# Altium integrated library National Semiconductor Temperature Sensor.IntLib: 361 symbols (part 3 of 9)
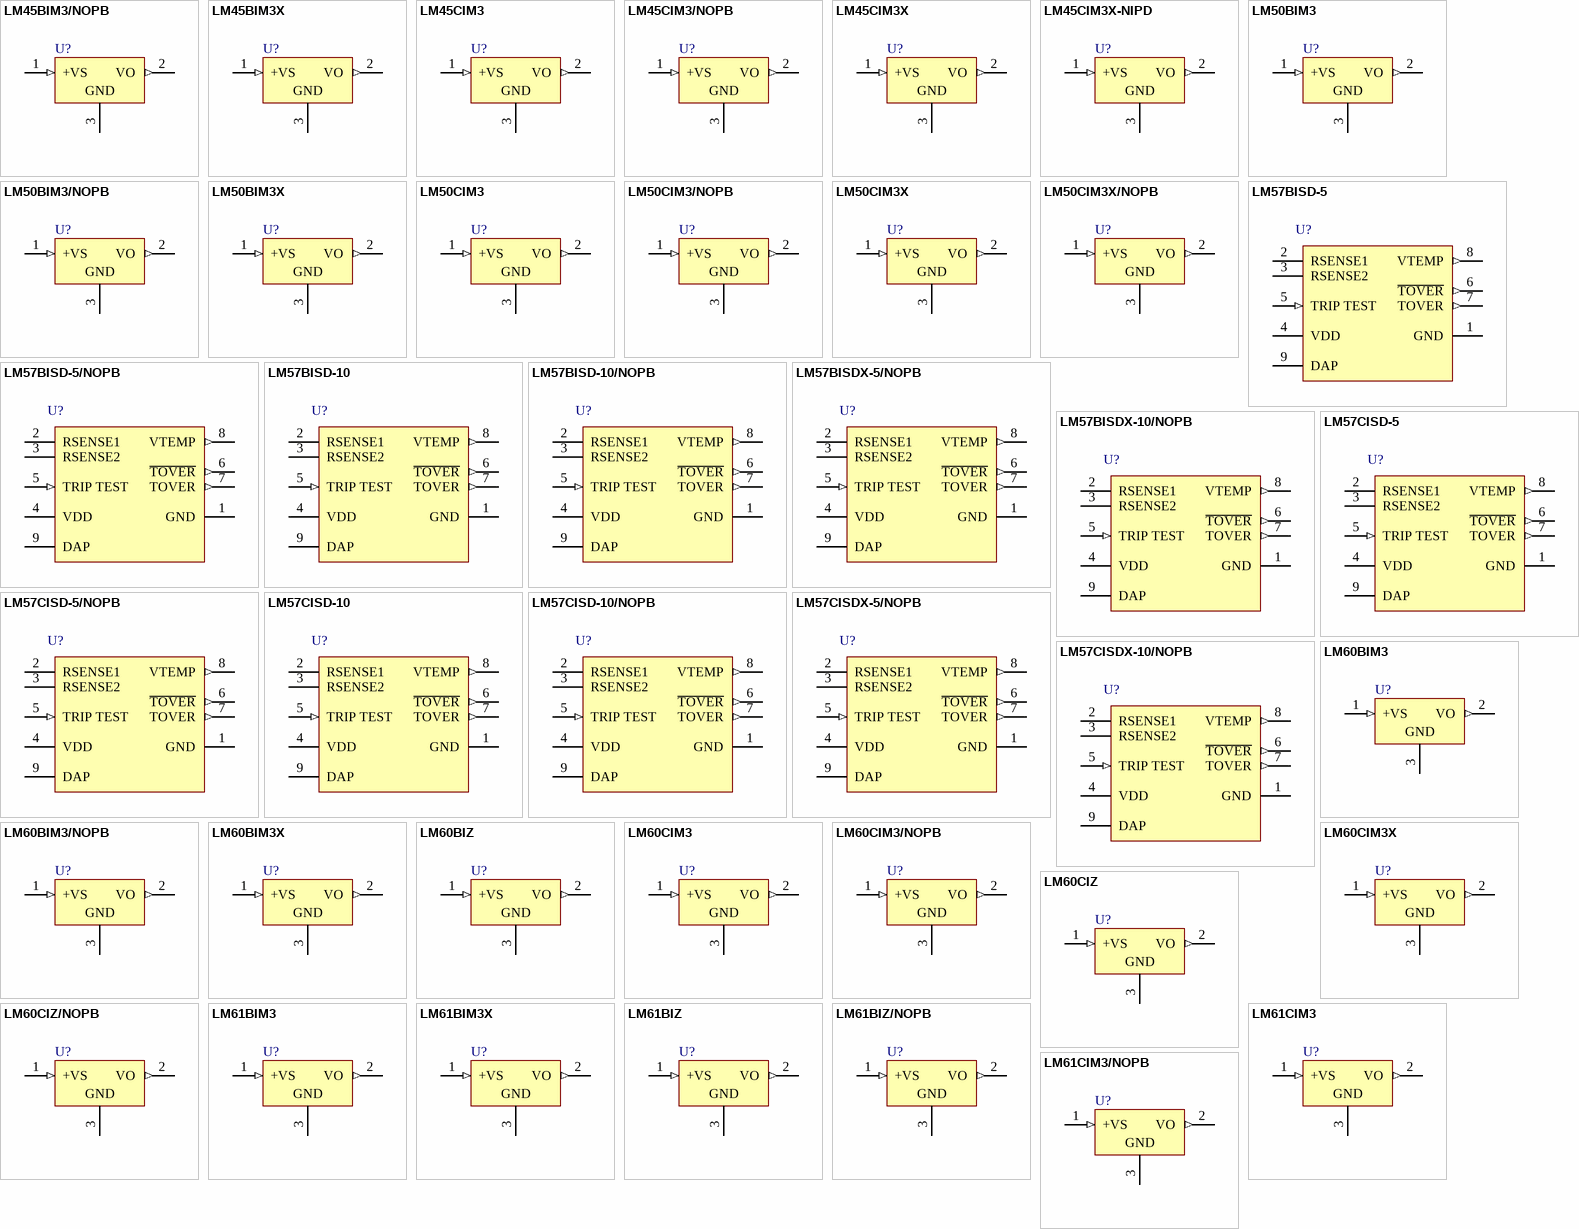
[diagram p11: symbols LM45BIM3/NOPB to LM61CIM3/NOPB]

## LM50BIM3/NOPB
designator U?
Single-Supply Centigrade Temperature Sensor, 3-pin SOT-23, Pb-Free; PartNumber: LM50BIM3/NOPB; Manufacturer: National Semiconductor; PackageTopMarking: T5B*XTT; PowerWise: N; CompType: Temp Sensor IC; High-Reliability: Y; DatasheetVersion: Feb-2006; PackageVersion: revB, Mar-2003; PackageReference: MF03A; PackageDescription: Molded SOT-23, .115 x .051 x .037in Body, 3 Lead, .075 in Pitch; RoHS: Y; PinCount: 3; ComponentLink1Description: Manufacturer URL; ComponentLink1URL: http://www.national.com/; ComponentLink2Description: LM50 Datasheet; ComponentLink2URL: http://www.national.com/ds/LM/LM50.pdf; ComponentLink3Description: LM50 Web Page; ComponentLink3URL: http://www.national.com/pf/LM/LM50.html; ComponentLink4Description: MF03A Package Page; ComponentLink4URL: http://www.national.com/packaging/folders/mf03a.html
footprint MF03A_N (SOT23, 3-Leads, Body 2.9x1.3mm, Pitch 0.95mm, Lead Span 2.4mm, IPC Medium Density)
footprint MF03A_L (SOT23, 3-Leads, Body 2.9x1.3mm, Pitch 0.95mm, Lead Span 2.4mm, IPC High Density)
footprint MF03A_M (SOT23, 3-Leads, Body 2.9x1.3mm, Pitch 0.95mm, Lead Span 2.4mm, IPC Low Density)
pins: 1 +VS (in), 2 VO (out), 3 GND (power)

## LM50BIM3X
designator U?
Single-Supply Centigrade Temperature Sensor, 3-pin SOT-23; PartNumber: LM50BIM3X; Manufacturer: National Semiconductor; PackageTopMarking: T5B*XTT; PowerWise: N; CompType: Temp Sensor IC; High-Reliability: Y; DatasheetVersion: Feb-2006; PackageVersion: revB, Mar-2003; PackageReference: MF03A; PackageDescription: Molded SOT-23, .115 x .051 x .037in Body, 3 Lead, .075 in Pitch; RoHS: N; PinCount: 3; ComponentLink1Description: Manufacturer URL; ComponentLink1URL: http://www.national.com/; ComponentLink2Description: LM50 Datasheet; ComponentLink2URL: http://www.national.com/ds/LM/LM50.pdf; ComponentLink3Description: LM50 Web Page; ComponentLink3URL: http://www.national.com/pf/LM/LM50.html; ComponentLink4Description: MF03A Package Page; ComponentLink4URL: http://www.national.com/packaging/folders/mf03a.html
footprint MF03A_N (SOT23, 3-Leads, Body 2.9x1.3mm, Pitch 0.95mm, Lead Span 2.4mm, IPC Medium Density)
footprint MF03A_L (SOT23, 3-Leads, Body 2.9x1.3mm, Pitch 0.95mm, Lead Span 2.4mm, IPC High Density)
footprint MF03A_M (SOT23, 3-Leads, Body 2.9x1.3mm, Pitch 0.95mm, Lead Span 2.4mm, IPC Low Density)
pins: 1 +VS (in), 2 VO (out), 3 GND (power)

## LM50CIM3
designator U?
Single-Supply Centigrade Temperature Sensor, 3-pin SOT-23; PartNumber: LM50CIM3; Manufacturer: National Semiconductor; PackageTopMarking: T5C*XTT; PowerWise: N; CompType: Temp Sensor IC; High-Reliability: Y; DatasheetVersion: Feb-2006; PackageVersion: revB, Mar-2003; PackageReference: MF03A; PackageDescription: Molded SOT-23, .115 x .051 x .037in Body, 3 Lead, .075 in Pitch; RoHS: N; PinCount: 3; ComponentLink1Description: Manufacturer URL; ComponentLink1URL: http://www.national.com/; ComponentLink2Description: LM50 Datasheet; ComponentLink2URL: http://www.national.com/ds/LM/LM50.pdf; ComponentLink3Description: LM50 Web Page; ComponentLink3URL: http://www.national.com/pf/LM/LM50.html; ComponentLink4Description: MF03A Package Page; ComponentLink4URL: http://www.national.com/packaging/folders/mf03a.html
footprint MF03A_N (SOT23, 3-Leads, Body 2.9x1.3mm, Pitch 0.95mm, Lead Span 2.4mm, IPC Medium Density)
footprint MF03A_L (SOT23, 3-Leads, Body 2.9x1.3mm, Pitch 0.95mm, Lead Span 2.4mm, IPC High Density)
footprint MF03A_M (SOT23, 3-Leads, Body 2.9x1.3mm, Pitch 0.95mm, Lead Span 2.4mm, IPC Low Density)
pins: 1 +VS (in), 2 VO (out), 3 GND (power)

## LM50CIM3/NOPB
designator U?
Single-Supply Centigrade Temperature Sensor, 3-pin SOT-23, Pb-Free; PartNumber: LM50CIM3/NOPB; Manufacturer: National Semiconductor; PackageTopMarking: T5C*XTT; PowerWise: N; CompType: Temp Sensor IC; High-Reliability: Y; DatasheetVersion: Feb-2006; PackageVersion: revB, Mar-2003; PackageReference: MF03A; PackageDescription: Molded SOT-23, .115 x .051 x .037in Body, 3 Lead, .075 in Pitch; RoHS: Y; PinCount: 3; ComponentLink1Description: Manufacturer URL; ComponentLink1URL: http://www.national.com/; ComponentLink2Description: LM50 Datasheet; ComponentLink2URL: http://www.national.com/ds/LM/LM50.pdf; ComponentLink3Description: LM50 Web Page; ComponentLink3URL: http://www.national.com/pf/LM/LM50.html; ComponentLink4Description: MF03A Package Page; ComponentLink4URL: http://www.national.com/packaging/folders/mf03a.html
footprint MF03A_N (SOT23, 3-Leads, Body 2.9x1.3mm, Pitch 0.95mm, Lead Span 2.4mm, IPC Medium Density)
footprint MF03A_L (SOT23, 3-Leads, Body 2.9x1.3mm, Pitch 0.95mm, Lead Span 2.4mm, IPC High Density)
footprint MF03A_M (SOT23, 3-Leads, Body 2.9x1.3mm, Pitch 0.95mm, Lead Span 2.4mm, IPC Low Density)
pins: 1 +VS (in), 2 VO (out), 3 GND (power)

## LM50CIM3X
designator U?
Single-Supply Centigrade Temperature Sensor, 3-pin SOT-23; PartNumber: LM50CIM3X; Manufacturer: National Semiconductor; PackageTopMarking: T5C*XTT; PowerWise: N; CompType: Temp Sensor IC; High-Reliability: Y; DatasheetVersion: Feb-2006; PackageVersion: revB, Mar-2003; PackageReference: MF03A; PackageDescription: Molded SOT-23, .115 x .051 x .037in Body, 3 Lead, .075 in Pitch; RoHS: N; PinCount: 3; ComponentLink1Description: Manufacturer URL; ComponentLink1URL: http://www.national.com/; ComponentLink2Description: LM50 Datasheet; ComponentLink2URL: http://www.national.com/ds/LM/LM50.pdf; ComponentLink3Description: LM50 Web Page; ComponentLink3URL: http://www.national.com/pf/LM/LM50.html; ComponentLink4Description: MF03A Package Page; ComponentLink4URL: http://www.national.com/packaging/folders/mf03a.html
footprint MF03A_N (SOT23, 3-Leads, Body 2.9x1.3mm, Pitch 0.95mm, Lead Span 2.4mm, IPC Medium Density)
footprint MF03A_L (SOT23, 3-Leads, Body 2.9x1.3mm, Pitch 0.95mm, Lead Span 2.4mm, IPC High Density)
footprint MF03A_M (SOT23, 3-Leads, Body 2.9x1.3mm, Pitch 0.95mm, Lead Span 2.4mm, IPC Low Density)
pins: 1 +VS (in), 2 VO (out), 3 GND (power)

## LM50CIM3X/NOPB
designator U?
Single-Supply Centigrade Temperature Sensor, 3-pin SOT-23, Pb-Free; PartNumber: LM50CIM3X/NOPB; Manufacturer: National Semiconductor; PackageTopMarking: T5C*XTT; PowerWise: N; CompType: Temp Sensor IC; High-Reliability: Y; DatasheetVersion: Feb-2006; PackageVersion: revB, Mar-2003; PackageReference: MF03A; PackageDescription: Molded SOT-23, .115 x .051 x .037in Body, 3 Lead, .075 in Pitch; RoHS: Y; PinCount: 3; ComponentLink1Description: Manufacturer URL; ComponentLink1URL: http://www.national.com/; ComponentLink2Description: LM50 Datasheet; ComponentLink2URL: http://www.national.com/ds/LM/LM50.pdf; ComponentLink3Description: LM50 Web Page; ComponentLink3URL: http://www.national.com/pf/LM/LM50.html; ComponentLink4Description: MF03A Package Page; ComponentLink4URL: http://www.national.com/packaging/folders/mf03a.html
footprint MF03A_N (SOT23, 3-Leads, Body 2.9x1.3mm, Pitch 0.95mm, Lead Span 2.4mm, IPC Medium Density)
footprint MF03A_L (SOT23, 3-Leads, Body 2.9x1.3mm, Pitch 0.95mm, Lead Span 2.4mm, IPC High Density)
footprint MF03A_M (SOT23, 3-Leads, Body 2.9x1.3mm, Pitch 0.95mm, Lead Span 2.4mm, IPC Low Density)
pins: 1 +VS (in), 2 VO (out), 3 GND (power)

## LM57BISD-5
designator U?
Resistor-Programmable Temperature Switch and Analog Temperature Sensor, 9-pin LLP; PartNumber: LM57BISD-5; Manufacturer: National Semiconductor; PackageTopMarking: XYTT*57B5; PowerWise: Y; CompType: Temp Sensor IC; DatasheetVersion: Feb-2010; PackageVersion: revA, Nov-2003; PackageReference: SDA08B; PackageDescription: LLP, Plastic, Dual, 2.5 x 2.5 x 0.8mm Body, 8 Lead, 0.5mm Pitch, No Pullback; RoHS: Y; PinCount: 8; High-Reliability: Y; ComponentLink1Description: Manufacturer URL; ComponentLink1URL: http://www.national.com/; ComponentLink2Description: LM57 Datasheet; ComponentLink2URL: http://www.national.com/ds/LM/LM57.pdf; ComponentLink3Description: LM57 Web Page; ComponentLink3URL: http://www.national.com/pf/LM/LM57.html; ComponentLink4Description: SDA08B Package Page; ComponentLink4URL: http://www.national.com/packaging/folders/sda08b.html
footprint SDA08B (SON, 8-Leads, Body 2.5x2.5mm, Pitch 0.5mm, NSC Recommended)
pins: 1 GND (power), 2 RSENSE1, 3 RSENSE2, 4 VDD (power), 5 TRIP TEST (in), 6 ~{TOVER} (out), 7 TOVER (out), 8 VTEMP (out), 9 DAP

## LM57BISD-5/NOPB
designator U?
Resistor-Programmable Temperature Switch and Analog Temperature Sensor, 8-pin LLP, Pb-Free; PartNumber: LM57BISD-5/NOPB; Manufacturer: National Semiconductor; PackageTopMarking: XYTT*57B5; PowerWise: Y; CompType: Temp Sensor IC; DatasheetVersion: Feb-2010; PackageVersion: revA, Nov-2003; PackageReference: SDA08B; PackageDescription: LLP, Plastic, Dual, 2.5 x 2.5 x 0.8mm Body, 8 Lead, 0.5mm Pitch, No Pullback; RoHS: Y; PinCount: 8; High-Reliability: Y; ComponentLink1Description: Manufacturer URL; ComponentLink1URL: http://www.national.com/; ComponentLink2Description: LM57 Datasheet; ComponentLink2URL: http://www.national.com/ds/LM/LM57.pdf; ComponentLink3Description: LM57 Web Page; ComponentLink3URL: http://www.national.com/pf/LM/LM57.html; ComponentLink4Description: SDA08B Package Page; ComponentLink4URL: http://www.national.com/packaging/folders/sda08b.html
footprint SDA08B (SON, 8-Leads, Body 2.5x2.5mm, Pitch 0.5mm, NSC Recommended)
pins: 1 GND (power), 2 RSENSE1, 3 RSENSE2, 4 VDD (power), 5 TRIP TEST (in), 6 ~{TOVER} (out), 7 TOVER (out), 8 VTEMP (out), 9 DAP

## LM57BISD-10
designator U?
Resistor-Programmable Temperature Switch and Analog Temperature Sensor, 9-pin LLP; PartNumber: LM57BISD-10; Manufacturer: National Semiconductor; PackageTopMarking: XYTT*57B9; PowerWise: Y; CompType: Temp Sensor IC; DatasheetVersion: Feb-2010; PackageVersion: revA, Nov-2003; PackageReference: SDA08B; PackageDescription: LLP, Plastic, Dual, 2.5 x 2.5 x 0.8mm Body, 8 Lead, 0.5mm Pitch, No Pullback; RoHS: Y; PinCount: 8; High-Reliability: Y; ComponentLink1Description: Manufacturer URL; ComponentLink1URL: http://www.national.com/; ComponentLink2Description: LM57 Datasheet; ComponentLink2URL: http://www.national.com/ds/LM/LM57.pdf; ComponentLink3Description: LM57 Web Page; ComponentLink3URL: http://www.national.com/pf/LM/LM57.html; ComponentLink4Description: SDA08B Package Page; ComponentLink4URL: http://www.national.com/packaging/folders/sda08b.html
footprint SDA08B (SON, 8-Leads, Body 2.5x2.5mm, Pitch 0.5mm, NSC Recommended)
pins: 1 GND (power), 2 RSENSE1, 3 RSENSE2, 4 VDD (power), 5 TRIP TEST (in), 6 ~{TOVER} (out), 7 TOVER (out), 8 VTEMP (out), 9 DAP

## LM57BISD-10/NOPB
designator U?
Resistor-Programmable Temperature Switch and Analog Temperature Sensor, 8-pin LLP, Pb-Free; PartNumber: LM57BISD-10/NOPB; Manufacturer: National Semiconductor; PackageTopMarking: XYTT*57B9; PowerWise: Y; CompType: Temp Sensor IC; DatasheetVersion: Feb-2010; PackageVersion: revA, Nov-2003; PackageReference: SDA08B; PackageDescription: LLP, Plastic, Dual, 2.5 x 2.5 x 0.8mm Body, 8 Lead, 0.5mm Pitch, No Pullback; RoHS: Y; PinCount: 8; High-Reliability: Y; ComponentLink1Description: Manufacturer URL; ComponentLink1URL: http://www.national.com/; ComponentLink2Description: LM57 Datasheet; ComponentLink2URL: http://www.national.com/ds/LM/LM57.pdf; ComponentLink3Description: LM57 Web Page; ComponentLink3URL: http://www.national.com/pf/LM/LM57.html; ComponentLink4Description: SDA08B Package Page; ComponentLink4URL: http://www.national.com/packaging/folders/sda08b.html
footprint SDA08B (SON, 8-Leads, Body 2.5x2.5mm, Pitch 0.5mm, NSC Recommended)
pins: 1 GND (power), 2 RSENSE1, 3 RSENSE2, 4 VDD (power), 5 TRIP TEST (in), 6 ~{TOVER} (out), 7 TOVER (out), 8 VTEMP (out), 9 DAP

## LM57BISDX-5/NOPB
designator U?
Resistor-Programmable Temperature Switch and Analog Temperature Sensor, 8-pin LLP, Pb-Free; PartNumber: LM57BISDX-5/NOPB; Manufacturer: National Semiconductor; PackageTopMarking: XYTT*57B5; PowerWise: Y; CompType: Temp Sensor IC; DatasheetVersion: Feb-2010; PackageVersion: revA, Nov-2003; PackageReference: SDA08B; PackageDescription: LLP, Plastic, Dual, 2.5 x 2.5 x 0.8mm Body, 8 Lead, 0.5mm Pitch, No Pullback; RoHS: Y; PinCount: 8; High-Reliability: Y; ComponentLink1Description: Manufacturer URL; ComponentLink1URL: http://www.national.com/; ComponentLink2Description: LM57 Datasheet; ComponentLink2URL: http://www.national.com/ds/LM/LM57.pdf; ComponentLink3Description: LM57 Web Page; ComponentLink3URL: http://www.national.com/pf/LM/LM57.html; ComponentLink4Description: SDA08B Package Page; ComponentLink4URL: http://www.national.com/packaging/folders/sda08b.html
footprint SDA08B (SON, 8-Leads, Body 2.5x2.5mm, Pitch 0.5mm, NSC Recommended)
pins: 1 GND (power), 2 RSENSE1, 3 RSENSE2, 4 VDD (power), 5 TRIP TEST (in), 6 ~{TOVER} (out), 7 TOVER (out), 8 VTEMP (out), 9 DAP

## LM57BISDX-10/NOPB
designator U?
Resistor-Programmable Temperature Switch and Analog Temperature Sensor, 8-pin LLP, Pb-Free; PartNumber: LM57BISDX-10/NOPB; Manufacturer: National Semiconductor; PackageTopMarking: XYTT*57B9; PowerWise: Y; CompType: Temp Sensor IC; DatasheetVersion: Feb-2010; PackageVersion: revA, Nov-2003; PackageReference: SDA08B; PackageDescription: LLP, Plastic, Dual, 2.5 x 2.5 x 0.8mm Body, 8 Lead, 0.5mm Pitch, No Pullback; RoHS: Y; PinCount: 8; High-Reliability: Y; ComponentLink1Description: Manufacturer URL; ComponentLink1URL: http://www.national.com/; ComponentLink2Description: LM57 Datasheet; ComponentLink2URL: http://www.national.com/ds/LM/LM57.pdf; ComponentLink3Description: LM57 Web Page; ComponentLink3URL: http://www.national.com/pf/LM/LM57.html; ComponentLink4Description: SDA08B Package Page; ComponentLink4URL: http://www.national.com/packaging/folders/sda08b.html
footprint SDA08B (SON, 8-Leads, Body 2.5x2.5mm, Pitch 0.5mm, NSC Recommended)
pins: 1 GND (power), 2 RSENSE1, 3 RSENSE2, 4 VDD (power), 5 TRIP TEST (in), 6 ~{TOVER} (out), 7 TOVER (out), 8 VTEMP (out), 9 DAP

## LM57CISD-5
designator U?
Resistor-Programmable Temperature Switch and Analog Temperature Sensor, 9-pin LLP; PartNumber: LM57CISD-5; Manufacturer: National Semiconductor; PackageTopMarking: XYTT*57C5; PowerWise: Y; CompType: Temp Sensor IC; DatasheetVersion: Feb-2010; PackageVersion: revA, Nov-2003; PackageReference: SDA08B; PackageDescription: LLP, Plastic, Dual, 2.5 x 2.5 x 0.8mm Body, 8 Lead, 0.5mm Pitch, No Pullback; RoHS: Y; PinCount: 8; High-Reliability: Y; ComponentLink1Description: Manufacturer URL; ComponentLink1URL: http://www.national.com/; ComponentLink2Description: LM57 Datasheet; ComponentLink2URL: http://www.national.com/ds/LM/LM57.pdf; ComponentLink3Description: LM57 Web Page; ComponentLink3URL: http://www.national.com/pf/LM/LM57.html; ComponentLink4Description: SDA08B Package Page; ComponentLink4URL: http://www.national.com/packaging/folders/sda08b.html
footprint SDA08B (SON, 8-Leads, Body 2.5x2.5mm, Pitch 0.5mm, NSC Recommended)
pins: 1 GND (power), 2 RSENSE1, 3 RSENSE2, 4 VDD (power), 5 TRIP TEST (in), 6 ~{TOVER} (out), 7 TOVER (out), 8 VTEMP (out), 9 DAP

## LM57CISD-5/NOPB
designator U?
Resistor-Programmable Temperature Switch and Analog Temperature Sensor, 8-pin LLP, Pb-Free; PartNumber: LM57CISD-5/NOPB; Manufacturer: National Semiconductor; PackageTopMarking: XYTT*57C5; PowerWise: Y; CompType: Temp Sensor IC; DatasheetVersion: Feb-2010; PackageVersion: revA, Nov-2003; PackageReference: SDA08B; PackageDescription: LLP, Plastic, Dual, 2.5 x 2.5 x 0.8mm Body, 8 Lead, 0.5mm Pitch, No Pullback; RoHS: Y; PinCount: 8; High-Reliability: Y; ComponentLink1Description: Manufacturer URL; ComponentLink1URL: http://www.national.com/; ComponentLink2Description: LM57 Datasheet; ComponentLink2URL: http://www.national.com/ds/LM/LM57.pdf; ComponentLink3Description: LM57 Web Page; ComponentLink3URL: http://www.national.com/pf/LM/LM57.html; ComponentLink4Description: SDA08B Package Page; ComponentLink4URL: http://www.national.com/packaging/folders/sda08b.html
footprint SDA08B (SON, 8-Leads, Body 2.5x2.5mm, Pitch 0.5mm, NSC Recommended)
pins: 1 GND (power), 2 RSENSE1, 3 RSENSE2, 4 VDD (power), 5 TRIP TEST (in), 6 ~{TOVER} (out), 7 TOVER (out), 8 VTEMP (out), 9 DAP

## LM57CISD-10
designator U?
Resistor-Programmable Temperature Switch and Analog Temperature Sensor, 9-pin LLP; PartNumber: LM57CISD-10; Manufacturer: National Semiconductor; PackageTopMarking: XYTT*57C9; PowerWise: Y; CompType: Temp Sensor IC; DatasheetVersion: Feb-2010; PackageVersion: revA, Nov-2003; PackageReference: SDA08B; PackageDescription: LLP, Plastic, Dual, 2.5 x 2.5 x 0.8mm Body, 8 Lead, 0.5mm Pitch, No Pullback; RoHS: Y; PinCount: 8; High-Reliability: Y; ComponentLink1Description: Manufacturer URL; ComponentLink1URL: http://www.national.com/; ComponentLink2Description: LM57 Datasheet; ComponentLink2URL: http://www.national.com/ds/LM/LM57.pdf; ComponentLink3Description: LM57 Web Page; ComponentLink3URL: http://www.national.com/pf/LM/LM57.html; ComponentLink4Description: SDA08B Package Page; ComponentLink4URL: http://www.national.com/packaging/folders/sda08b.html
footprint SDA08B (SON, 8-Leads, Body 2.5x2.5mm, Pitch 0.5mm, NSC Recommended)
pins: 1 GND (power), 2 RSENSE1, 3 RSENSE2, 4 VDD (power), 5 TRIP TEST (in), 6 ~{TOVER} (out), 7 TOVER (out), 8 VTEMP (out), 9 DAP

## LM57CISD-10/NOPB
designator U?
Resistor-Programmable Temperature Switch and Analog Temperature Sensor, 8-pin LLP, Pb-Free; PartNumber: LM57CISD-10/NOPB; Manufacturer: National Semiconductor; PackageTopMarking: XYTT*57C9; PowerWise: Y; CompType: Temp Sensor IC; DatasheetVersion: Feb-2010; PackageVersion: revA, Nov-2003; PackageReference: SDA08B; PackageDescription: LLP, Plastic, Dual, 2.5 x 2.5 x 0.8mm Body, 8 Lead, 0.5mm Pitch, No Pullback; RoHS: Y; PinCount: 8; High-Reliability: Y; ComponentLink1Description: Manufacturer URL; ComponentLink1URL: http://www.national.com/; ComponentLink2Description: LM57 Datasheet; ComponentLink2URL: http://www.national.com/ds/LM/LM57.pdf; ComponentLink3Description: LM57 Web Page; ComponentLink3URL: http://www.national.com/pf/LM/LM57.html; ComponentLink4Description: SDA08B Package Page; ComponentLink4URL: http://www.national.com/packaging/folders/sda08b.html
footprint SDA08B (SON, 8-Leads, Body 2.5x2.5mm, Pitch 0.5mm, NSC Recommended)
pins: 1 GND (power), 2 RSENSE1, 3 RSENSE2, 4 VDD (power), 5 TRIP TEST (in), 6 ~{TOVER} (out), 7 TOVER (out), 8 VTEMP (out), 9 DAP

## LM57CISDX-5/NOPB
designator U?
Resistor-Programmable Temperature Switch and Analog Temperature Sensor, 8-pin LLP, Pb-Free; PartNumber: LM57CISDX-5/NOPB; Manufacturer: National Semiconductor; PackageTopMarking: XYTT*57C5; PowerWise: Y; CompType: Temp Sensor IC; DatasheetVersion: Feb-2010; PackageVersion: revA, Nov-2003; PackageReference: SDA08B; PackageDescription: LLP, Plastic, Dual, 2.5 x 2.5 x 0.8mm Body, 8 Lead, 0.5mm Pitch, No Pullback; RoHS: Y; PinCount: 8; High-Reliability: Y; ComponentLink1Description: Manufacturer URL; ComponentLink1URL: http://www.national.com/; ComponentLink2Description: LM57 Datasheet; ComponentLink2URL: http://www.national.com/ds/LM/LM57.pdf; ComponentLink3Description: LM57 Web Page; ComponentLink3URL: http://www.national.com/pf/LM/LM57.html; ComponentLink4Description: SDA08B Package Page; ComponentLink4URL: http://www.national.com/packaging/folders/sda08b.html
footprint SDA08B (SON, 8-Leads, Body 2.5x2.5mm, Pitch 0.5mm, NSC Recommended)
pins: 1 GND (power), 2 RSENSE1, 3 RSENSE2, 4 VDD (power), 5 TRIP TEST (in), 6 ~{TOVER} (out), 7 TOVER (out), 8 VTEMP (out), 9 DAP

## LM57CISDX-10/NOPB
designator U?
Resistor-Programmable Temperature Switch and Analog Temperature Sensor, 8-pin LLP, Pb-Free; PartNumber: LM57CISDX-10/NOPB; Manufacturer: National Semiconductor; PackageTopMarking: XYTT*57C9; PowerWise: Y; CompType: Temp Sensor IC; DatasheetVersion: Feb-2010; PackageVersion: revA, Nov-2003; PackageReference: SDA08B; PackageDescription: LLP, Plastic, Dual, 2.5 x 2.5 x 0.8mm Body, 8 Lead, 0.5mm Pitch, No Pullback; RoHS: Y; PinCount: 8; High-Reliability: Y; ComponentLink1Description: Manufacturer URL; ComponentLink1URL: http://www.national.com/; ComponentLink2Description: LM57 Datasheet; ComponentLink2URL: http://www.national.com/ds/LM/LM57.pdf; ComponentLink3Description: LM57 Web Page; ComponentLink3URL: http://www.national.com/pf/LM/LM57.html; ComponentLink4Description: SDA08B Package Page; ComponentLink4URL: http://www.national.com/packaging/folders/sda08b.html
footprint SDA08B (SON, 8-Leads, Body 2.5x2.5mm, Pitch 0.5mm, NSC Recommended)
pins: 1 GND (power), 2 RSENSE1, 3 RSENSE2, 4 VDD (power), 5 TRIP TEST (in), 6 ~{TOVER} (out), 7 TOVER (out), 8 VTEMP (out), 9 DAP

## LM60BIM3
designator U?
2.7V Temperature Sensor, 3-pin SOT-23; PartNumber: LM60BIM3; Manufacturer: National Semiconductor; PackageTopMarking: T6B*XTT; PowerWise: N; CompType: Temp Sensor IC; High-Reliability: Y; DatasheetVersion: Feb-2010; PackageVersion: revB, Mar-2003; PackageReference: MF03A; PackageDescription: Molded SOT-23, .115 x .051 x .037in Body, 3 Lead, .075 in Pitch; RoHS: N; PinCount: 3; ComponentLink1Description: Manufacturer URL; ComponentLink1URL: http://www.national.com/; ComponentLink2Description: LM60 Datasheet; ComponentLink2URL: http://www.national.com/ds/LM/LM60.pdf; ComponentLink3Description: LM60 Web Page; ComponentLink3URL: http://www.national.com/pf/LM/LM60.html; ComponentLink4Description: MF03A Package Page; ComponentLink4URL: http://www.national.com/packaging/folders/mf03a.html
footprint MF03A_N (SOT23, 3-Leads, Body 2.9x1.3mm, Pitch 0.95mm, Lead Span 2.4mm, IPC Medium Density)
footprint MF03A_L (SOT23, 3-Leads, Body 2.9x1.3mm, Pitch 0.95mm, Lead Span 2.4mm, IPC High Density)
footprint MF03A_M (SOT23, 3-Leads, Body 2.9x1.3mm, Pitch 0.95mm, Lead Span 2.4mm, IPC Low Density)
pins: 1 +VS (in), 2 VO (out), 3 GND (power)

## LM60BIM3/NOPB
designator U?
2.7V Temperature Sensor, 3-pin SOT-23, Pb-Free; PartNumber: LM60BIM3/NOPB; Manufacturer: National Semiconductor; PackageTopMarking: T6B*XTT; PowerWise: N; CompType: Temp Sensor IC; High-Reliability: Y; DatasheetVersion: Feb-2010; PackageVersion: revB, Mar-2003; PackageReference: MF03A; PackageDescription: Molded SOT-23, .115 x .051 x .037in Body, 3 Lead, .075 in Pitch; RoHS: Y; PinCount: 3; ComponentLink1Description: Manufacturer URL; ComponentLink1URL: http://www.national.com/; ComponentLink2Description: LM60 Datasheet; ComponentLink2URL: http://www.national.com/ds/LM/LM60.pdf; ComponentLink3Description: LM60 Web Page; ComponentLink3URL: http://www.national.com/pf/LM/LM60.html; ComponentLink4Description: MF03A Package Page; ComponentLink4URL: http://www.national.com/packaging/folders/mf03a.html
footprint MF03A_N (SOT23, 3-Leads, Body 2.9x1.3mm, Pitch 0.95mm, Lead Span 2.4mm, IPC Medium Density)
footprint MF03A_L (SOT23, 3-Leads, Body 2.9x1.3mm, Pitch 0.95mm, Lead Span 2.4mm, IPC High Density)
footprint MF03A_M (SOT23, 3-Leads, Body 2.9x1.3mm, Pitch 0.95mm, Lead Span 2.4mm, IPC Low Density)
pins: 1 +VS (in), 2 VO (out), 3 GND (power)

## LM60BIM3X
designator U?
2.7V Temperature Sensor, 3-pin SOT-23; PartNumber: LM60BIM3X; Manufacturer: National Semiconductor; PackageTopMarking: T6B*XTT; PowerWise: N; CompType: Temp Sensor IC; High-Reliability: Y; DatasheetVersion: Feb-2010; PackageVersion: revB, Mar-2003; PackageReference: MF03A; PackageDescription: Molded SOT-23, .115 x .051 x .037in Body, 3 Lead, .075 in Pitch; RoHS: N; PinCount: 3; ComponentLink1Description: Manufacturer URL; ComponentLink1URL: http://www.national.com/; ComponentLink2Description: LM60 Datasheet; ComponentLink2URL: http://www.national.com/ds/LM/LM60.pdf; ComponentLink3Description: LM60 Web Page; ComponentLink3URL: http://www.national.com/pf/LM/LM60.html; ComponentLink4Description: MF03A Package Page; ComponentLink4URL: http://www.national.com/packaging/folders/mf03a.html
footprint MF03A_N (SOT23, 3-Leads, Body 2.9x1.3mm, Pitch 0.95mm, Lead Span 2.4mm, IPC Medium Density)
footprint MF03A_L (SOT23, 3-Leads, Body 2.9x1.3mm, Pitch 0.95mm, Lead Span 2.4mm, IPC High Density)
footprint MF03A_M (SOT23, 3-Leads, Body 2.9x1.3mm, Pitch 0.95mm, Lead Span 2.4mm, IPC Low Density)
pins: 1 +VS (in), 2 VO (out), 3 GND (power)

## LM60BIZ
designator U?
2.7V Temperature Sensor, 3-pin TO-92; PartNumber: LM60BIZ; Manufacturer: National Semiconductor; PackageTopMarking: NSXYTT*LM60*BIZ; PowerWise: N; CompType: Temp Sensor IC; High-Reliability: Y; DatasheetVersion: Feb-2010; PackageVersion: revG, Sep-2000; PackageReference: Z03A; PackageDescription: TO-92, Molded, 3 Lead; RoHS: N; PinCount: 3; Code_JEDEC: TO-226-AA; ComponentLink1Description: Manufacturer URL; ComponentLink1URL: http://www.national.com/; ComponentLink2Description: LM60 Datasheet; ComponentLink2URL: http://www.national.com/ds/LM/LM60.pdf; ComponentLink3Description: LM60 Web Page; ComponentLink3URL: http://www.national.com/pf/LM/LM60.html; ComponentLink4Description: Z03A Package Page; ComponentLink4URL: http://www.national.com/packaging/folders/z03a.html
footprint Z03A (TO, Flat Index; 3 In-Line, Axial Leads; Body Dia. 5mm; Leads 0.55 x 0.50 mm (max))
pins: 1 +VS (in), 2 VO (out), 3 GND (power)

## LM60CIM3
designator U?
2.7V Temperature Sensor, 3-pin SOT-23; PartNumber: LM60CIM3; Manufacturer: National Semiconductor; PackageTopMarking: T6C*XTT; PowerWise: N; CompType: Temp Sensor IC; High-Reliability: Y; DatasheetVersion: Feb-2010; PackageVersion: revB, Mar-2003; PackageReference: MF03A; PackageDescription: Molded SOT-23, .115 x .051 x .037in Body, 3 Lead, .075 in Pitch; RoHS: N; PinCount: 3; ComponentLink1Description: Manufacturer URL; ComponentLink1URL: http://www.national.com/; ComponentLink2Description: LM60 Datasheet; ComponentLink2URL: http://www.national.com/ds/LM/LM60.pdf; ComponentLink3Description: LM60 Web Page; ComponentLink3URL: http://www.national.com/pf/LM/LM60.html; ComponentLink4Description: MF03A Package Page; ComponentLink4URL: http://www.national.com/packaging/folders/mf03a.html
footprint MF03A_N (SOT23, 3-Leads, Body 2.9x1.3mm, Pitch 0.95mm, Lead Span 2.4mm, IPC Medium Density)
footprint MF03A_L (SOT23, 3-Leads, Body 2.9x1.3mm, Pitch 0.95mm, Lead Span 2.4mm, IPC High Density)
footprint MF03A_M (SOT23, 3-Leads, Body 2.9x1.3mm, Pitch 0.95mm, Lead Span 2.4mm, IPC Low Density)
pins: 1 +VS (in), 2 VO (out), 3 GND (power)

## LM60CIM3/NOPB
designator U?
2.7V Temperature Sensor, 3-pin SOT-23, Pb-Free; PartNumber: LM60CIM3/NOPB; Manufacturer: National Semiconductor; PackageTopMarking: T6C*XTT; PowerWise: N; CompType: Temp Sensor IC; High-Reliability: Y; DatasheetVersion: Feb-2010; PackageVersion: revB, Mar-2003; PackageReference: MF03A; PackageDescription: Molded SOT-23, .115 x .051 x .037in Body, 3 Lead, .075 in Pitch; RoHS: Y; PinCount: 3; ComponentLink1Description: Manufacturer URL; ComponentLink1URL: http://www.national.com/; ComponentLink2Description: LM60 Datasheet; ComponentLink2URL: http://www.national.com/ds/LM/LM60.pdf; ComponentLink3Description: LM60 Web Page; ComponentLink3URL: http://www.national.com/pf/LM/LM60.html; ComponentLink4Description: MF03A Package Page; ComponentLink4URL: http://www.national.com/packaging/folders/mf03a.html
footprint MF03A_N (SOT23, 3-Leads, Body 2.9x1.3mm, Pitch 0.95mm, Lead Span 2.4mm, IPC Medium Density)
footprint MF03A_L (SOT23, 3-Leads, Body 2.9x1.3mm, Pitch 0.95mm, Lead Span 2.4mm, IPC High Density)
footprint MF03A_M (SOT23, 3-Leads, Body 2.9x1.3mm, Pitch 0.95mm, Lead Span 2.4mm, IPC Low Density)
pins: 1 +VS (in), 2 VO (out), 3 GND (power)

## LM60CIM3X
designator U?
2.7V Temperature Sensor, 3-pin SOT-23; PartNumber: LM60CIM3X; Manufacturer: National Semiconductor; PackageTopMarking: T6C*XTT; PowerWise: N; CompType: Temp Sensor IC; High-Reliability: Y; DatasheetVersion: Feb-2010; PackageVersion: revB, Mar-2003; PackageReference: MF03A; PackageDescription: Molded SOT-23, .115 x .051 x .037in Body, 3 Lead, .075 in Pitch; RoHS: N; PinCount: 3; ComponentLink1Description: Manufacturer URL; ComponentLink1URL: http://www.national.com/; ComponentLink2Description: LM60 Datasheet; ComponentLink2URL: http://www.national.com/ds/LM/LM60.pdf; ComponentLink3Description: LM60 Web Page; ComponentLink3URL: http://www.national.com/pf/LM/LM60.html; ComponentLink4Description: MF03A Package Page; ComponentLink4URL: http://www.national.com/packaging/folders/mf03a.html
footprint MF03A_N (SOT23, 3-Leads, Body 2.9x1.3mm, Pitch 0.95mm, Lead Span 2.4mm, IPC Medium Density)
footprint MF03A_L (SOT23, 3-Leads, Body 2.9x1.3mm, Pitch 0.95mm, Lead Span 2.4mm, IPC High Density)
footprint MF03A_M (SOT23, 3-Leads, Body 2.9x1.3mm, Pitch 0.95mm, Lead Span 2.4mm, IPC Low Density)
pins: 1 +VS (in), 2 VO (out), 3 GND (power)

## LM60CIZ
designator U?
2.7V Temperature Sensor, 3-pin TO-92; PartNumber: LM60CIZ; Manufacturer: National Semiconductor; PackageTopMarking: NSXYTT*LM60*CIZ; PowerWise: N; CompType: Temp Sensor IC; High-Reliability: Y; DatasheetVersion: Feb-2010; PackageVersion: revG, Sep-2000; PackageReference: Z03A; PackageDescription: TO-92, Molded, 3 Lead; RoHS: N; PinCount: 3; Code_JEDEC: TO-226-AA; ComponentLink1Description: Manufacturer URL; ComponentLink1URL: http://www.national.com/; ComponentLink2Description: LM60 Datasheet; ComponentLink2URL: http://www.national.com/ds/LM/LM60.pdf; ComponentLink3Description: LM60 Web Page; ComponentLink3URL: http://www.national.com/pf/LM/LM60.html; ComponentLink4Description: Z03A Package Page; ComponentLink4URL: http://www.national.com/packaging/folders/z03a.html
footprint Z03A (TO, Flat Index; 3 In-Line, Axial Leads; Body Dia. 5mm; Leads 0.55 x 0.50 mm (max))
pins: 1 +VS (in), 2 VO (out), 3 GND (power)

## LM60CIZ/NOPB
designator U?
2.7V Temperature Sensor, 3-pin TO-92, Pb-Free; PartNumber: LM60CIZ/NOPB; Manufacturer: National Semiconductor; PackageTopMarking: NSXYTT*LM60*CIZ; PowerWise: N; CompType: Temp Sensor IC; High-Reliability: Y; DatasheetVersion: Feb-2010; PackageVersion: revG, Sep-2000; PackageReference: Z03A; PackageDescription: TO-92, Molded, 3 Lead; RoHS: Y; PinCount: 3; Code_JEDEC: TO-226-AA; ComponentLink1Description: Manufacturer URL; ComponentLink1URL: http://www.national.com/; ComponentLink2Description: LM60 Datasheet; ComponentLink2URL: http://www.national.com/ds/LM/LM60.pdf; ComponentLink3Description: LM60 Web Page; ComponentLink3URL: http://www.national.com/pf/LM/LM60.html; ComponentLink4Description: Z03A Package Page; ComponentLink4URL: http://www.national.com/packaging/folders/z03a.html
footprint Z03A (TO, Flat Index; 3 In-Line, Axial Leads; Body Dia. 5mm; Leads 0.55 x 0.50 mm (max))
pins: 1 +VS (in), 2 VO (out), 3 GND (power)

## LM61BIM3
designator U?
2.7V Temperature Sensor, 3-pin SOT-23; PartNumber: LM61BIM3; Manufacturer: National Semiconductor; PackageTopMarking: T1B*XTT; PowerWise: N; CompType: Temp Sensor IC; High-Reliability: Y; DatasheetVersion: Feb-2010; PackageVersion: revB, Mar-2003; PackageReference: MF03A; PackageDescription: Molded SOT-23, .115 x .051 x .037in Body, 3 Lead, .075 in Pitch; RoHS: N; PinCount: 3; ComponentLink1Description: Manufacturer URL; ComponentLink1URL: http://www.national.com/; ComponentLink2Description: LM61 Datasheet; ComponentLink2URL: http://www.national.com/ds/LM/LM61.pdf; ComponentLink3Description: LM61 Web Page; ComponentLink3URL: http://www.national.com/pf/LM/LM61.html; ComponentLink4Description: MF03A Package Page; ComponentLink4URL: http://www.national.com/packaging/folders/mf03a.html
footprint MF03A_N (SOT23, 3-Leads, Body 2.9x1.3mm, Pitch 0.95mm, Lead Span 2.4mm, IPC Medium Density)
footprint MF03A_L (SOT23, 3-Leads, Body 2.9x1.3mm, Pitch 0.95mm, Lead Span 2.4mm, IPC High Density)
footprint MF03A_M (SOT23, 3-Leads, Body 2.9x1.3mm, Pitch 0.95mm, Lead Span 2.4mm, IPC Low Density)
pins: 1 +VS (in), 2 VO (out), 3 GND (power)

## LM61BIM3X
designator U?
2.7V Temperature Sensor, 3-pin SOT-23; PartNumber: LM61BIM3X; Manufacturer: National Semiconductor; PackageTopMarking: T1B*XTT; PowerWise: N; CompType: Temp Sensor IC; High-Reliability: Y; DatasheetVersion: Feb-2010; PackageVersion: revB, Mar-2003; PackageReference: MF03A; PackageDescription: Molded SOT-23, .115 x .051 x .037in Body, 3 Lead, .075 in Pitch; RoHS: N; PinCount: 3; ComponentLink1Description: Manufacturer URL; ComponentLink1URL: http://www.national.com/; ComponentLink2Description: LM61 Datasheet; ComponentLink2URL: http://www.national.com/ds/LM/LM61.pdf; ComponentLink3Description: LM61 Web Page; ComponentLink3URL: http://www.national.com/pf/LM/LM61.html; ComponentLink4Description: MF03A Package Page; ComponentLink4URL: http://www.national.com/packaging/folders/mf03a.html
footprint MF03A_N (SOT23, 3-Leads, Body 2.9x1.3mm, Pitch 0.95mm, Lead Span 2.4mm, IPC Medium Density)
footprint MF03A_L (SOT23, 3-Leads, Body 2.9x1.3mm, Pitch 0.95mm, Lead Span 2.4mm, IPC High Density)
footprint MF03A_M (SOT23, 3-Leads, Body 2.9x1.3mm, Pitch 0.95mm, Lead Span 2.4mm, IPC Low Density)
pins: 1 +VS (in), 2 VO (out), 3 GND (power)

## LM61BIZ
designator U?
2.7V Temperature Sensor, 3-pin TO-92; PartNumber: LM61BIZ; Manufacturer: National Semiconductor; PackageTopMarking: NSXYTT*LM61*BIZ; PowerWise: N; CompType: Temp Sensor IC; High-Reliability: Y; DatasheetVersion: Feb-2010; PackageVersion: revG, Sep-2000; PackageReference: Z03A; PackageDescription: TO-92, Molded, 3 Lead; RoHS: N; PinCount: 3; Code_JEDEC: TO-226-AA; ComponentLink1Description: Manufacturer URL; ComponentLink1URL: http://www.national.com/; ComponentLink2Description: LM61 Datasheet; ComponentLink2URL: http://www.national.com/ds/LM/LM61.pdf; ComponentLink3Description: LM61 Web Page; ComponentLink3URL: http://www.national.com/pf/LM/LM61.html; ComponentLink4Description: Z03A Package Page; ComponentLink4URL: http://www.national.com/packaging/folders/z03a.html
footprint Z03A (TO, Flat Index; 3 In-Line, Axial Leads; Body Dia. 5mm; Leads 0.55 x 0.50 mm (max))
pins: 1 +VS (in), 2 VO (out), 3 GND (power)

## LM61BIZ/NOPB
designator U?
2.7V Temperature Sensor, 3-pin TO-92, Pb-Free; PartNumber: LM61BIZ/NOPB; Manufacturer: National Semiconductor; PackageTopMarking: NSXYTT*LM61*BIZ; PowerWise: N; CompType: Temp Sensor IC; High-Reliability: Y; DatasheetVersion: Feb-2010; PackageVersion: revG, Sep-2000; PackageReference: Z03A; PackageDescription: TO-92, Molded, 3 Lead; RoHS: Y; PinCount: 3; Code_JEDEC: TO-226-AA; ComponentLink1Description: Manufacturer URL; ComponentLink1URL: http://www.national.com/; ComponentLink2Description: LM61 Datasheet; ComponentLink2URL: http://www.national.com/ds/LM/LM61.pdf; ComponentLink3Description: LM61 Web Page; ComponentLink3URL: http://www.national.com/pf/LM/LM61.html; ComponentLink4Description: Z03A Package Page; ComponentLink4URL: http://www.national.com/packaging/folders/z03a.html
footprint Z03A (TO, Flat Index; 3 In-Line, Axial Leads; Body Dia. 5mm; Leads 0.55 x 0.50 mm (max))
pins: 1 +VS (in), 2 VO (out), 3 GND (power)

## LM61CIM3
designator U?
2.7V Temperature Sensor, 3-pin SOT-23; PartNumber: LM61CIM3; Manufacturer: National Semiconductor; PackageTopMarking: T1C*XTT; PowerWise: N; CompType: Temp Sensor IC; High-Reliability: Y; DatasheetVersion: Feb-2010; PackageVersion: revB, Mar-2003; PackageReference: MF03A; PackageDescription: Molded SOT-23, .115 x .051 x .037in Body, 3 Lead, .075 in Pitch; RoHS: N; PinCount: 3; ComponentLink1Description: Manufacturer URL; ComponentLink1URL: http://www.national.com/; ComponentLink2Description: LM61 Datasheet; ComponentLink2URL: http://www.national.com/ds/LM/LM61.pdf; ComponentLink3Description: LM61 Web Page; ComponentLink3URL: http://www.national.com/pf/LM/LM61.html; ComponentLink4Description: MF03A Package Page; ComponentLink4URL: http://www.national.com/packaging/folders/mf03a.html
footprint MF03A_N (SOT23, 3-Leads, Body 2.9x1.3mm, Pitch 0.95mm, Lead Span 2.4mm, IPC Medium Density)
footprint MF03A_L (SOT23, 3-Leads, Body 2.9x1.3mm, Pitch 0.95mm, Lead Span 2.4mm, IPC High Density)
footprint MF03A_M (SOT23, 3-Leads, Body 2.9x1.3mm, Pitch 0.95mm, Lead Span 2.4mm, IPC Low Density)
pins: 1 +VS (in), 2 VO (out), 3 GND (power)

## LM61CIM3/NOPB
designator U?
2.7V Temperature Sensor, 3-pin SOT-23, Pb-Free; PartNumber: LM61CIM3/NOPB; Manufacturer: National Semiconductor; PackageTopMarking: T1C*XTT; PowerWise: N; CompType: Temp Sensor IC; High-Reliability: Y; DatasheetVersion: Feb-2010; PackageVersion: revB, Mar-2003; PackageReference: MF03A; PackageDescription: Molded SOT-23, .115 x .051 x .037in Body, 3 Lead, .075 in Pitch; RoHS: Y; PinCount: 3; ComponentLink1Description: Manufacturer URL; ComponentLink1URL: http://www.national.com/; ComponentLink2Description: LM61 Datasheet; ComponentLink2URL: http://www.national.com/ds/LM/LM61.pdf; ComponentLink3Description: LM61 Web Page; ComponentLink3URL: http://www.national.com/pf/LM/LM61.html; ComponentLink4Description: MF03A Package Page; ComponentLink4URL: http://www.national.com/packaging/folders/mf03a.html
footprint MF03A_N (SOT23, 3-Leads, Body 2.9x1.3mm, Pitch 0.95mm, Lead Span 2.4mm, IPC Medium Density)
footprint MF03A_L (SOT23, 3-Leads, Body 2.9x1.3mm, Pitch 0.95mm, Lead Span 2.4mm, IPC High Density)
footprint MF03A_M (SOT23, 3-Leads, Body 2.9x1.3mm, Pitch 0.95mm, Lead Span 2.4mm, IPC Low Density)
pins: 1 +VS (in), 2 VO (out), 3 GND (power)

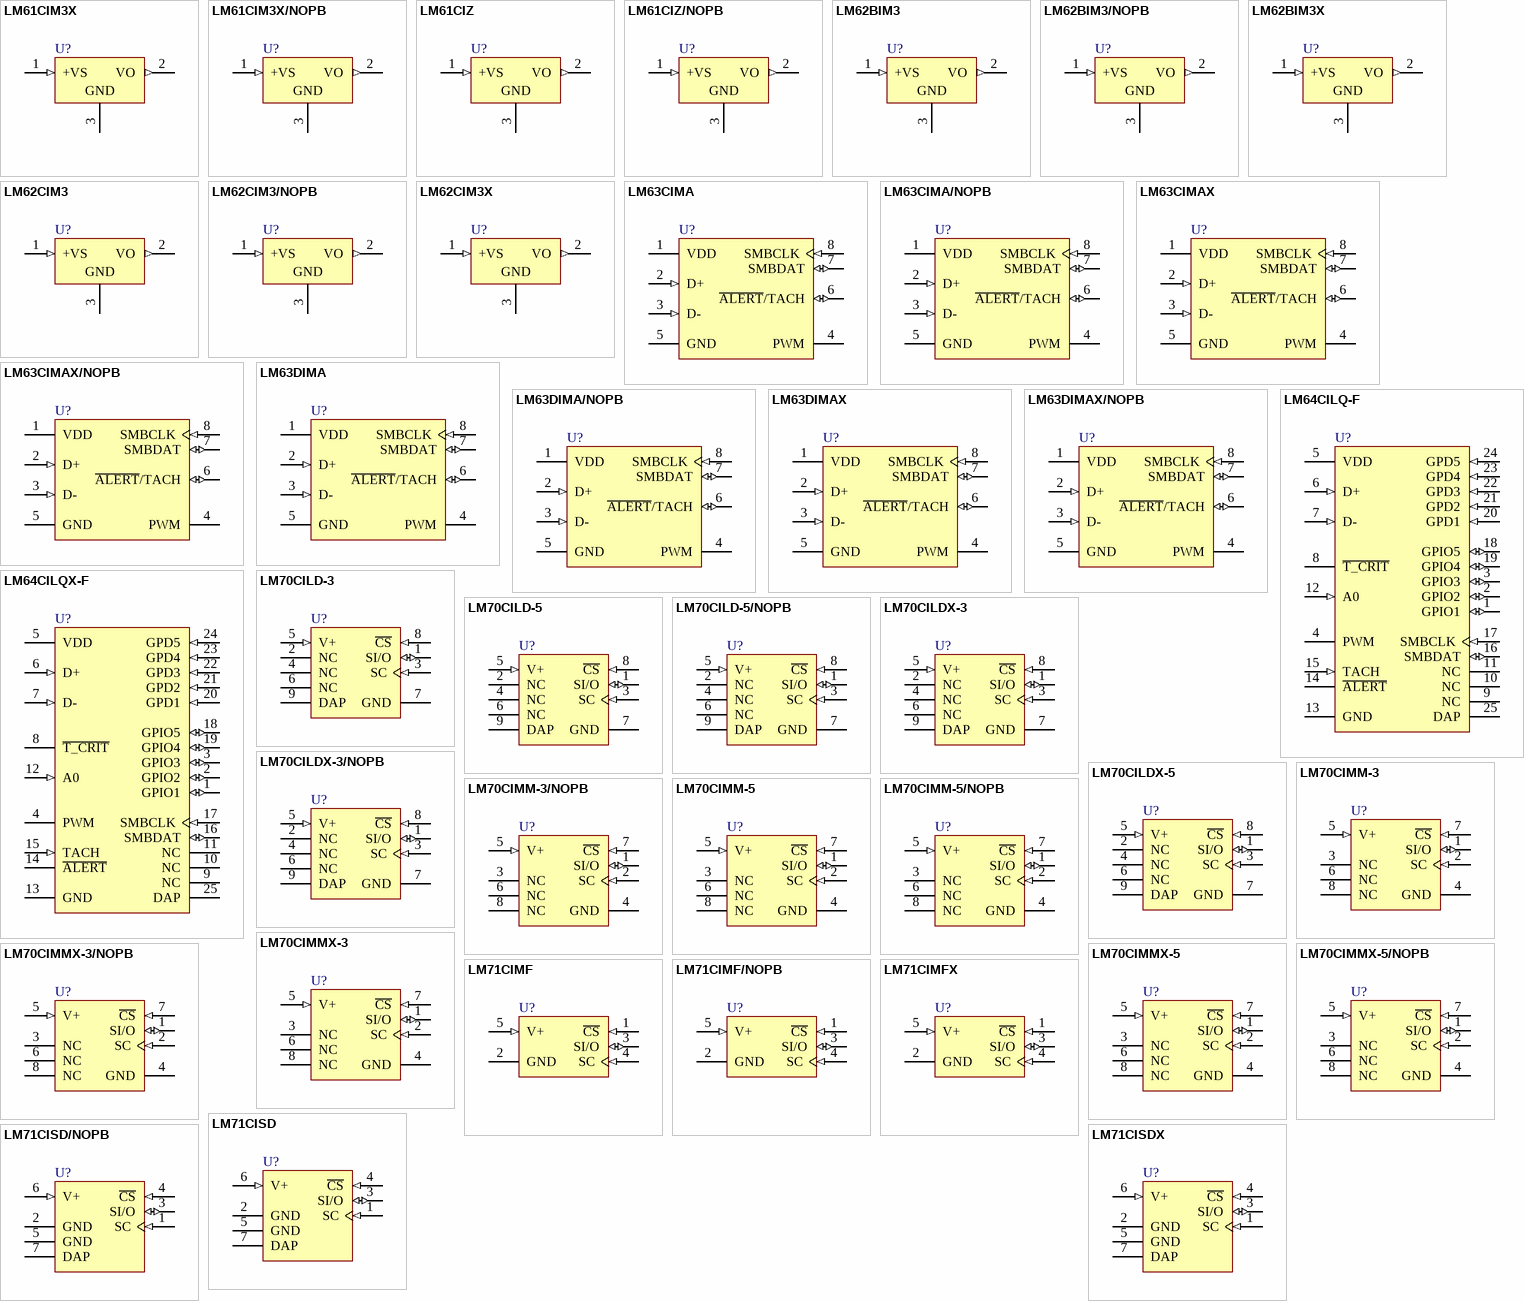
[diagram p3: symbols LM61CIM3X to LM71CISDX]

## LM61CIM3X
designator U?
2.7V Temperature Sensor, 3-pin SOT-23; PartNumber: LM61CIM3X; Manufacturer: National Semiconductor; PackageTopMarking: T1C*XTT; PowerWise: N; CompType: Temp Sensor IC; High-Reliability: Y; DatasheetVersion: Feb-2010; PackageVersion: revB, Mar-2003; PackageReference: MF03A; PackageDescription: Molded SOT-23, .115 x .051 x .037in Body, 3 Lead, .075 in Pitch; RoHS: N; PinCount: 3; ComponentLink1Description: Manufacturer URL; ComponentLink1URL: http://www.national.com/; ComponentLink2Description: LM61 Datasheet; ComponentLink2URL: http://www.national.com/ds/LM/LM61.pdf; ComponentLink3Description: LM61 Web Page; ComponentLink3URL: http://www.national.com/pf/LM/LM61.html; ComponentLink4Description: MF03A Package Page; ComponentLink4URL: http://www.national.com/packaging/folders/mf03a.html
footprint MF03A_N (SOT23, 3-Leads, Body 2.9x1.3mm, Pitch 0.95mm, Lead Span 2.4mm, IPC Medium Density)
footprint MF03A_L (SOT23, 3-Leads, Body 2.9x1.3mm, Pitch 0.95mm, Lead Span 2.4mm, IPC High Density)
footprint MF03A_M (SOT23, 3-Leads, Body 2.9x1.3mm, Pitch 0.95mm, Lead Span 2.4mm, IPC Low Density)
pins: 1 +VS (in), 2 VO (out), 3 GND (power)

## LM61CIM3X/NOPB
designator U?
2.7V Temperature Sensor, 3-pin SOT-23, Pb-Free; PartNumber: LM61CIM3X/NOPB; Manufacturer: National Semiconductor; PackageTopMarking: T1C*XTT; PowerWise: N; CompType: Temp Sensor IC; High-Reliability: Y; DatasheetVersion: Feb-2010; PackageVersion: revB, Mar-2003; PackageReference: MF03A; PackageDescription: Molded SOT-23, .115 x .051 x .037in Body, 3 Lead, .075 in Pitch; RoHS: Y; PinCount: 3; ComponentLink1Description: Manufacturer URL; ComponentLink1URL: http://www.national.com/; ComponentLink2Description: LM61 Datasheet; ComponentLink2URL: http://www.national.com/ds/LM/LM61.pdf; ComponentLink3Description: LM61 Web Page; ComponentLink3URL: http://www.national.com/pf/LM/LM61.html; ComponentLink4Description: MF03A Package Page; ComponentLink4URL: http://www.national.com/packaging/folders/mf03a.html
footprint MF03A_N (SOT23, 3-Leads, Body 2.9x1.3mm, Pitch 0.95mm, Lead Span 2.4mm, IPC Medium Density)
footprint MF03A_L (SOT23, 3-Leads, Body 2.9x1.3mm, Pitch 0.95mm, Lead Span 2.4mm, IPC High Density)
footprint MF03A_M (SOT23, 3-Leads, Body 2.9x1.3mm, Pitch 0.95mm, Lead Span 2.4mm, IPC Low Density)
pins: 1 +VS (in), 2 VO (out), 3 GND (power)

## LM61CIZ
designator U?
2.7V Temperature Sensor, 3-pin TO-92; PartNumber: LM61CIZ; Manufacturer: National Semiconductor; PackageTopMarking: NSXYTT*LM61*CIZ; PowerWise: N; CompType: Temp Sensor IC; High-Reliability: Y; DatasheetVersion: Feb-2010; PackageVersion: revG, Sep-2000; PackageReference: Z03A; PackageDescription: TO-92, Molded, 3 Lead; RoHS: N; PinCount: 3; Code_JEDEC: TO-226-AA; ComponentLink1Description: Manufacturer URL; ComponentLink1URL: http://www.national.com/; ComponentLink2Description: LM61 Datasheet; ComponentLink2URL: http://www.national.com/ds/LM/LM61.pdf; ComponentLink3Description: LM61 Web Page; ComponentLink3URL: http://www.national.com/pf/LM/LM61.html; ComponentLink4Description: Z03A Package Page; ComponentLink4URL: http://www.national.com/packaging/folders/z03a.html
footprint Z03A (TO, Flat Index; 3 In-Line, Axial Leads; Body Dia. 5mm; Leads 0.55 x 0.50 mm (max))
pins: 1 +VS (in), 2 VO (out), 3 GND (power)

## LM61CIZ/NOPB
designator U?
2.7V Temperature Sensor, 3-pin TO-92, Pb-Free; PartNumber: LM61CIZ/NOPB; Manufacturer: National Semiconductor; PackageTopMarking: NSXYTT*LM61*CIZ; PowerWise: N; CompType: Temp Sensor IC; High-Reliability: Y; DatasheetVersion: Feb-2010; PackageVersion: revG, Sep-2000; PackageReference: Z03A; PackageDescription: TO-92, Molded, 3 Lead; RoHS: Y; PinCount: 3; Code_JEDEC: TO-226-AA; ComponentLink1Description: Manufacturer URL; ComponentLink1URL: http://www.national.com/; ComponentLink2Description: LM61 Datasheet; ComponentLink2URL: http://www.national.com/ds/LM/LM61.pdf; ComponentLink3Description: LM61 Web Page; ComponentLink3URL: http://www.national.com/pf/LM/LM61.html; ComponentLink4Description: Z03A Package Page; ComponentLink4URL: http://www.national.com/packaging/folders/z03a.html
footprint Z03A (TO, Flat Index; 3 In-Line, Axial Leads; Body Dia. 5mm; Leads 0.55 x 0.50 mm (max))
pins: 1 +VS (in), 2 VO (out), 3 GND (power)

## LM62BIM3
designator U?
2.7V, 15.6mV/°C, Temperature Sensor, 3-pin SOT-23; PartNumber: LM62BIM3; Manufacturer: National Semiconductor; PackageTopMarking: T7B*XTT; PowerWise: N; CompType: Temp Sensor IC; High-Reliability: Y; DatasheetVersion: Feb-2010; PackageVersion: revB, Mar-2003; PackageReference: MF03A; PackageDescription: Molded SOT-23, .115 x .051 x .037in Body, 3 Lead, .075 in Pitch; RoHS: N; PinCount: 3; ComponentLink1Description: Manufacturer URL; ComponentLink1URL: http://www.national.com/; ComponentLink2Description: LM62 Datasheet; ComponentLink2URL: http://www.national.com/ds/LM/LM62.pdf; ComponentLink3Description: LM62 Web Page; ComponentLink3URL: http://www.national.com/pf/LM/LM62.html; ComponentLink4Description: MF03A Package Page; ComponentLink4URL: http://www.national.com/packaging/folders/mf03a.html
footprint MF03A_N (SOT23, 3-Leads, Body 2.9x1.3mm, Pitch 0.95mm, Lead Span 2.4mm, IPC Medium Density)
footprint MF03A_L (SOT23, 3-Leads, Body 2.9x1.3mm, Pitch 0.95mm, Lead Span 2.4mm, IPC High Density)
footprint MF03A_M (SOT23, 3-Leads, Body 2.9x1.3mm, Pitch 0.95mm, Lead Span 2.4mm, IPC Low Density)
pins: 1 +VS (in), 2 VO (out), 3 GND (power)

## LM62BIM3/NOPB
designator U?
2.7V, 15.6mV/°C, Temperature Sensor, 3-pin SOT-23, Pb-Free; PartNumber: LM62BIM3/NOPB; Manufacturer: National Semiconductor; PackageTopMarking: T7B*XTT; PowerWise: N; CompType: Temp Sensor IC; High-Reliability: Y; DatasheetVersion: Feb-2010; PackageVersion: revB, Mar-2003; PackageReference: MF03A; PackageDescription: Molded SOT-23, .115 x .051 x .037in Body, 3 Lead, .075 in Pitch; RoHS: Y; PinCount: 3; ComponentLink1Description: Manufacturer URL; ComponentLink1URL: http://www.national.com/; ComponentLink2Description: LM62 Datasheet; ComponentLink2URL: http://www.national.com/ds/LM/LM62.pdf; ComponentLink3Description: LM62 Web Page; ComponentLink3URL: http://www.national.com/pf/LM/LM62.html; ComponentLink4Description: MF03A Package Page; ComponentLink4URL: http://www.national.com/packaging/folders/mf03a.html
footprint MF03A_N (SOT23, 3-Leads, Body 2.9x1.3mm, Pitch 0.95mm, Lead Span 2.4mm, IPC Medium Density)
footprint MF03A_L (SOT23, 3-Leads, Body 2.9x1.3mm, Pitch 0.95mm, Lead Span 2.4mm, IPC High Density)
footprint MF03A_M (SOT23, 3-Leads, Body 2.9x1.3mm, Pitch 0.95mm, Lead Span 2.4mm, IPC Low Density)
pins: 1 +VS (in), 2 VO (out), 3 GND (power)

## LM62BIM3X
designator U?
2.7V, 15.6mV/°C, Temperature Sensor, 3-pin SOT-23; PartNumber: LM62BIM3X; Manufacturer: National Semiconductor; PackageTopMarking: T7B*XTT; PowerWise: N; CompType: Temp Sensor IC; High-Reliability: Y; DatasheetVersion: Feb-2010; PackageVersion: revB, Mar-2003; PackageReference: MF03A; PackageDescription: Molded SOT-23, .115 x .051 x .037in Body, 3 Lead, .075 in Pitch; RoHS: N; PinCount: 3; ComponentLink1Description: Manufacturer URL; ComponentLink1URL: http://www.national.com/; ComponentLink2Description: LM62 Datasheet; ComponentLink2URL: http://www.national.com/ds/LM/LM62.pdf; ComponentLink3Description: LM62 Web Page; ComponentLink3URL: http://www.national.com/pf/LM/LM62.html; ComponentLink4Description: MF03A Package Page; ComponentLink4URL: http://www.national.com/packaging/folders/mf03a.html
footprint MF03A_N (SOT23, 3-Leads, Body 2.9x1.3mm, Pitch 0.95mm, Lead Span 2.4mm, IPC Medium Density)
footprint MF03A_L (SOT23, 3-Leads, Body 2.9x1.3mm, Pitch 0.95mm, Lead Span 2.4mm, IPC High Density)
footprint MF03A_M (SOT23, 3-Leads, Body 2.9x1.3mm, Pitch 0.95mm, Lead Span 2.4mm, IPC Low Density)
pins: 1 +VS (in), 2 VO (out), 3 GND (power)

## LM62CIM3
designator U?
2.7V, 15.6mV/°C, Temperature Sensor, 3-pin SOT-23; PartNumber: LM62CIM3; Manufacturer: National Semiconductor; PackageTopMarking: T7C*XTT; PowerWise: N; CompType: Temp Sensor IC; High-Reliability: Y; DatasheetVersion: Feb-2010; PackageVersion: revB, Mar-2003; PackageReference: MF03A; PackageDescription: Molded SOT-23, .115 x .051 x .037in Body, 3 Lead, .075 in Pitch; RoHS: N; PinCount: 3; ComponentLink1Description: Manufacturer URL; ComponentLink1URL: http://www.national.com/; ComponentLink2Description: LM62 Datasheet; ComponentLink2URL: http://www.national.com/ds/LM/LM62.pdf; ComponentLink3Description: LM62 Web Page; ComponentLink3URL: http://www.national.com/pf/LM/LM62.html; ComponentLink4Description: MF03A Package Page; ComponentLink4URL: http://www.national.com/packaging/folders/mf03a.html
footprint MF03A_N (SOT23, 3-Leads, Body 2.9x1.3mm, Pitch 0.95mm, Lead Span 2.4mm, IPC Medium Density)
footprint MF03A_L (SOT23, 3-Leads, Body 2.9x1.3mm, Pitch 0.95mm, Lead Span 2.4mm, IPC High Density)
footprint MF03A_M (SOT23, 3-Leads, Body 2.9x1.3mm, Pitch 0.95mm, Lead Span 2.4mm, IPC Low Density)
pins: 1 +VS (in), 2 VO (out), 3 GND (power)

## LM62CIM3/NOPB
designator U?
2.7V, 15.6mV/°C, Temperature Sensor, 3-pin SOT-23, Pb-Free; PartNumber: LM62CIM3/NOPB; Manufacturer: National Semiconductor; PackageTopMarking: T7C*XTT; PowerWise: N; CompType: Temp Sensor IC; High-Reliability: Y; DatasheetVersion: Feb-2010; PackageVersion: revB, Mar-2003; PackageReference: MF03A; PackageDescription: Molded SOT-23, .115 x .051 x .037in Body, 3 Lead, .075 in Pitch; RoHS: Y; PinCount: 3; ComponentLink1Description: Manufacturer URL; ComponentLink1URL: http://www.national.com/; ComponentLink2Description: LM62 Datasheet; ComponentLink2URL: http://www.national.com/ds/LM/LM62.pdf; ComponentLink3Description: LM62 Web Page; ComponentLink3URL: http://www.national.com/pf/LM/LM62.html; ComponentLink4Description: MF03A Package Page; ComponentLink4URL: http://www.national.com/packaging/folders/mf03a.html
footprint MF03A_N (SOT23, 3-Leads, Body 2.9x1.3mm, Pitch 0.95mm, Lead Span 2.4mm, IPC Medium Density)
footprint MF03A_L (SOT23, 3-Leads, Body 2.9x1.3mm, Pitch 0.95mm, Lead Span 2.4mm, IPC High Density)
footprint MF03A_M (SOT23, 3-Leads, Body 2.9x1.3mm, Pitch 0.95mm, Lead Span 2.4mm, IPC Low Density)
pins: 1 +VS (in), 2 VO (out), 3 GND (power)

## LM62CIM3X
designator U?
2.7V, 15.6mV/°C, Temperature Sensor, 3-pin SOT-23; PartNumber: LM62CIM3X; Manufacturer: National Semiconductor; PackageTopMarking: T7C*XTT; PowerWise: N; CompType: Temp Sensor IC; High-Reliability: Y; DatasheetVersion: Feb-2010; PackageVersion: revB, Mar-2003; PackageReference: MF03A; PackageDescription: Molded SOT-23, .115 x .051 x .037in Body, 3 Lead, .075 in Pitch; RoHS: N; PinCount: 3; ComponentLink1Description: Manufacturer URL; ComponentLink1URL: http://www.national.com/; ComponentLink2Description: LM62 Datasheet; ComponentLink2URL: http://www.national.com/ds/LM/LM62.pdf; ComponentLink3Description: LM62 Web Page; ComponentLink3URL: http://www.national.com/pf/LM/LM62.html; ComponentLink4Description: MF03A Package Page; ComponentLink4URL: http://www.national.com/packaging/folders/mf03a.html
footprint MF03A_N (SOT23, 3-Leads, Body 2.9x1.3mm, Pitch 0.95mm, Lead Span 2.4mm, IPC Medium Density)
footprint MF03A_L (SOT23, 3-Leads, Body 2.9x1.3mm, Pitch 0.95mm, Lead Span 2.4mm, IPC High Density)
footprint MF03A_M (SOT23, 3-Leads, Body 2.9x1.3mm, Pitch 0.95mm, Lead Span 2.4mm, IPC Low Density)
pins: 1 +VS (in), 2 VO (out), 3 GND (power)

## LM63CIMA
designator U?
±1ºC/±3ºC Accurate Remote Diode Digital Temperature Sensor with Integrated Fan Control, 8-pin Narrow SOIC; PartNumber: LM63CIMA; Manufacturer: National Semiconductor; PackageTopMarking: NSZXTT*LM63*CIMA; PowerWise: Y; CompType: Temp Sensor IC; DatasheetVersion: Aug-2009; PackageVersion: revM, May-2009; PackageReference: M08A; PackageDescription: SOIC Narrow, 4.9 x 3.9 x 1.45mm, 8 Lead, 1.27mm Pitch; RoHS: N; PinCount: 8; High-Reliability: Y; Code_JEDEC: MS-012-AA; Code_IPC: SOIC127P600-8; ComponentLink1Description: Manufacturer URL; ComponentLink1URL: http://www.national.com/; ComponentLink2Description: LM63 Datasheet; ComponentLink2URL: http://www.national.com/ds/LM/LM63.pdf; ComponentLink3Description: LM63 Web Page; ComponentLink3URL: http://www.national.com/pf/LM/LM63.html; ComponentLink4Description: M08A Package Page; ComponentLink4URL: http://www.national.com/packaging/folders/m08a.html
footprint M08A_N (SOIC, 8-Leads, Body 4.9x3.9mm, Pitch 1.27mm, IPC Medium Density)
footprint M08A_L (SOIC, 8-Leads, Body 4.9x3.9mm, Pitch 1.27mm, IPC High Density)
footprint M08A_M (SOIC, 8-Leads, Body 4.9x3.9mm, Pitch 1.27mm, IPC Low Density)
pins: 1 VDD (power), 2 D+ (in), 3 D- (in), 4 PWM (oc), 5 GND (power), 6 ~{ALERT}/TACH (io), 7 SMBDAT (io), 8 SMBCLK (in)